# Altium schematic symbol library Solder bridge.SchLib: 1 symbol
Pins are listed as number, name and electrical type; pins without a type are passive.

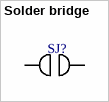
[diagram p0: symbol Solder bridge]

## Solder bridge
designator SJ?  (value not drawn)
Solder bridge
pins: 1, 2